# Altium integrated library Library.IntLib: 629 symbols (part 5 of 21)
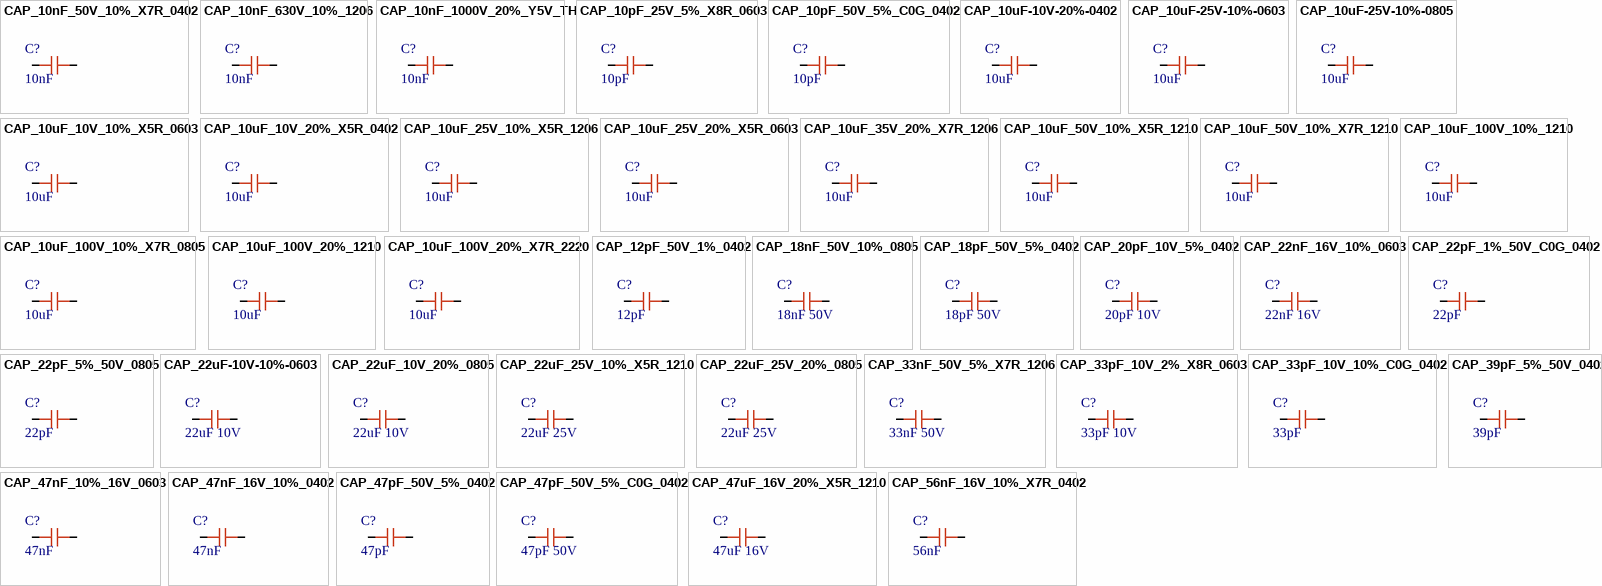
[diagram p22: symbols CAP_10nF_50V_10%_X7R_0402 to CAP_56nF_16V_10%_X7R_0402]

## CAP_22pF_5%_50V_0805
designator C?, comment 22pF
Ceramic Capacitor, Multilayer, Ceramic, 50V, 5% +Tol, 5% -Tol, C0G, 30ppm/Cel TC, 0.000022uF, Surface Mount, 0805; Manufacturer: KEMET; Manufacturer Part Number: C0805C220J5GACTU; Multilayer: Yes; Supplier: Rs; Supplier Part Number: 2644258; RoHS: Yes; Category: Ceramic Capacitors; Stock: 200; Pricing: 25=0.026, 100=0.037, 125=0.019, 250=0.034, 500=0.032, 625=0.013, 1000=0.03 (EUR); Mounting Technology: Surface Mount; Pins: 2; Dielectric Material: Ceramic; Package Shape: Rectangular; Case/Package: 0805; Terminal Finish: Nickel; Min Operating Temperature: -55°C; Max Operating Temperature: 125°C; JESD-609 Code: e3; Value: 22pF; Capacitor Type: Ceramic; Tolerance  (fill in as +-): 5%; Package Style: SMTMeter; Packaging: Tape and Reel; Tolerance (fill in as +-): 5%; Rated DC Voltage (URdc): 50V; Temperature Characteristics Code: C0G; Termination: Wraparound; Length: 2mm; Width: 1.25mm; Height: 0.7mm; Reach SVHC Compliant: Yes; RoHS Compliant: Yes; ComponentLink1URL: https://datasheet.ciiva.com:443/pdfs/VipMasterIC/IC/KEME/KEME-S-A0005605168/KEME-S-A0005605168-1.pdf?src-supplier=IHS+Markit; ComponentLink1Description: https://datasheet.ciiva.com:443/pdfs/VipMasterIC/IC/KEME/KEME-S-A0005605168/KEME-S-A0005605168-1.pdf?src-supplier=IHS+Markit; ComponentLink2URL: https://datasheet.ciiva.com/7842/1732694-7842250.pdf?src-supplier=Element14; ComponentLink2Description: https://datasheet.ciiva.com/7842/1732694-7842250.pdf?src-supplier=Element14; ComponentLink3URL: https://datasheet.ciiva.com/7842/1372242-7842570.pdf?src-supplier=Element14; ComponentLink3Description: https://datasheet.ciiva.com/7842/1372242-7842570.pdf?src-supplier=Element14; ComponentLink4URL: https://datasheet.ciiva.com/7842/1732694-7842251.pdf?src-supplier=Element14; ComponentLink4Description: https://datasheet.ciiva.com/7842/1732694-7842251.pdf?src-supplier=Element14; ComponentLink5URL: https://datasheet.ciiva.com/28668/1789732-28668761.pdf?src-supplier=Element14; ComponentLink5Description: https://datasheet.ciiva.com/28668/1789732-28668761.pdf?src-supplier=Element14
footprint CAP_0805
pins: 1, 2

## CAP_22uF-10V-10%-0603
designator C?, comment 22uF 10V
Ceramic Capacitor, Multilayer, Ceramic, 10V, 20% +Tol, 20% -Tol, X5R, 15% TC, 22uF, Surface Mount, 0603; Manufacturer: Samsung; Manufacturer Part Number: CL10A226MP8NUNE; Multilayer: Yes; Supplier: Avnet; Supplier Part Number: CL10A226MP8NUNE; RoHS: Yes; Category: Ceramic Capacitors; Stock: 1866000; Pricing: 3000=0.01407 (USD); Mounting Technology: Surface Mount; Pins: 2; Dielectric Material: Ceramic; Package Shape: Rectangular; Case/Package: 0603; Terminal Finish: Nickel; Min Operating Temperature: -55°C; Max Operating Temperature: 85°C; JESD-609 Code: e3; Value: 22uF; Capacitor Type: Ceramic; Tolerance  (fill in as +-): 20%; Package Style: SMTMeter; Packaging: Tape and Reel; Tolerance (fill in as +-): 20%; Rated DC Voltage (URdc): 10V; Temperature Characteristics Code: X5R; Termination: Wraparound; Length: 1.6mm; Width: 0.8mm; Height: 1.05mm; Reach SVHC Compliant: Yes; RoHS Compliant: Yes; ComponentLink1URL: https://datasheet.ciiva.com:443/pdfs/VipMasterIC/IC/SEMS/SEMS-S-A0008525088/SEMS-S-A0008525102-1.pdf?src-supplier=IHS+Markit; ComponentLink1Description: https://datasheet.ciiva.com:443/pdfs/VipMasterIC/IC/SEMS/SEMS-S-A0008525088/SEMS-S-A0008525102-1.pdf?src-supplier=IHS+Markit; ComponentLink2URL: https://datasheet.ciiva.com/26838/getdatasheetpartid-746477-26838370.pdf?src-supplier=Verical; ComponentLink2Description: https://datasheet.ciiva.com/26838/getdatasheetpartid-746477-26838370.pdf?src-supplier=Verical; ComponentLink3URL: https://datasheet.ciiva.com/25711/cl10a226mp8nune-25711532.pdf?src-supplier=Digikey; ComponentLink3Description: https://datasheet.ciiva.com/25711/cl10a226mp8nune-25711532.pdf?src-supplier=Digikey
footprint CAP_0603
pins: 1, 2

## CAP_22uF_10V_20%_0805
designator C?, comment 22uF 10V
Ceramic Capacitor, Multilayer, Ceramic, 10V, 20% +Tol, 20% -Tol, X5R, 15% TC, 22uF, Surface Mount, 0805; Manufacturer: Samsung; Manufacturer Part Number: CL21A226MPQNNNE; Multilayer: Yes; Supplier: Digikey; Supplier Part Number: 1276-2910-1-ND; RoHS: Yes; Category: Ceramic Capacitors; Stock: 364060; Pricing: 1=0.18, 10=0.121, 50=0.0726, 100=0.0571, 500=0.04214, 1000=0.03489 (USD); Mounting Technology: Surface Mount; Pins: 2; Case/Package: 0805; Dielectric Material: Ceramic; Package Shape: Rectangular; Terminal Finish: Nickel; Min Operating Temperature: -55°C; Max Operating Temperature: 85°C; Package Style: SMTMeter; Packaging: Tape and Reel; JESD-609 Code: e3; Value: 22uF; Capacitor Type: Ceramic; Tolerance  (fill in as +-): 20%; Tolerance (fill in as +-): 20%; Rated DC Voltage (URdc): 10V; Temperature Characteristics Code: X5R; Termination: Wraparound; Length: 2mm; Width: 1.25mm; Height: 1.4mm; Reach SVHC Compliant: Yes; RoHS Compliant: Yes; ComponentLink1URL: https://datasheet.ciiva.com:443/pdfs/VipMasterIC/IC/SEMS/SEMS-S-A0008528919/SEMS-S-A0008526560-1.pdf?src-supplier=IHS+Markit; ComponentLink1Description: https://datasheet.ciiva.com:443/pdfs/VipMasterIC/IC/SEMS/SEMS-S-A0008528919/SEMS-S-A0008526560-1.pdf?src-supplier=IHS+Markit; ComponentLink2URL: https://datasheet.ciiva.com/25721/cl21a226mpqnnne-25721488.pdf?src-supplier=Digikey; ComponentLink2Description: https://datasheet.ciiva.com/25721/cl21a226mpqnnne-25721488.pdf?src-supplier=Digikey
footprint CAP_0805
pins: 1, 2

## CAP_22uF_25V_10%_X5R_1210
designator C?, comment 22uF 25V
Ceramic Capacitor, Multilayer, Ceramic, 25V, 10% +Tol, 10% -Tol, X5R, 15% TC, 22uF, Surface Mount, 1210; Manufacturer: KEMET; Manufacturer Part Number: C1210C226K3PACTU; Multilayer: Yes; Supplier: Mouser; Supplier Part Number: 80-C1210C226K3P; RoHS: Yes; Category: Ceramic Capacitors; Stock: 240589; Pricing: 1=0.56, 10=0.38, 50=0.38, 100=0.3, 1000=0.244, 10000=0.206 (USD); Mounting Technology: Surface Mount; Pins: 2; Dielectric Material: Ceramic; Package Shape: Rectangular; Case/Package: 1210; Terminal Finish: Nickel; Min Operating Temperature: -55°C; Max Operating Temperature: 85°C; JESD-609 Code: e3; Value: 22uF; Capacitor Type: Ceramic; Tolerance  (fill in as +-): 10%; Package Style: SMTMeter; Packaging: Tape and Reel; Tolerance (fill in as +-): 10%; Rated DC Voltage (URdc): 25V; Temperature Characteristics Code: X5R; Termination: Wraparound; Length: 3.2mm; Width: 2.5mm; Height: 2.5mm; Reach SVHC Compliant: Yes; RoHS Compliant: Yes; ComponentLink1URL: https://datasheet.ciiva.com:443/pdfs/VipMasterIC/IC/KEME/KEME-S-A0008991665/KEME-S-A0008991665-1.pdf?src-supplier=IHS+Markit; ComponentLink1Description: https://datasheet.ciiva.com:443/pdfs/VipMasterIC/IC/KEME/KEME-S-A0008991665/KEME-S-A0008991665-1.pdf?src-supplier=IHS+Markit; ComponentLink2URL: https://datasheet.ciiva.com/29540/kem-c1006-x5r-smd-29540222.pdf?src-supplier=Digikey; ComponentLink2Description: https://datasheet.ciiva.com/29540/kem-c1006-x5r-smd-29540222.pdf?src-supplier=Digikey; ComponentLink3URL: https://datasheet.ciiva.com/29540/kem-c1006-x5r-smd-29540221.pdf?src-supplier=Digikey; ComponentLink3Description: https://datasheet.ciiva.com/29540/kem-c1006-x5r-smd-29540221.pdf?src-supplier=Digikey; ComponentLink4URL: https://datasheet.ciiva.com/29540/kem-c1006-x5r-smd-29540223.pdf?src-supplier=Digikey; ComponentLink4Description: https://datasheet.ciiva.com/29540/kem-c1006-x5r-smd-29540223.pdf?src-supplier=Digikey
footprint CAP_1210
pins: 1, 2

## CAP_22uF_25V_20%_0805
designator C?, comment 22uF 25V
Ceramic Capacitor, Multilayer, Ceramic, 25V, 20% +Tol, 20% -Tol, X5R, 15% TC, 22uF, Surface Mount, 0805; Manufacturer: Samsung; Manufacturer Part Number: CL21A226MAYNNNE; Multilayer: Yes; Supplier: Digikey; Supplier Part Number: 1276-CL21A226MAYNNNECT-ND; RoHS: Yes; Category: Ceramic Capacitors; Stock: 761092; Pricing: 1=0.2, 10=0.091, 50=0.0732, 100=0.0552, 500=0.0516, 1000=0.048 (USD); Mounting Technology: Surface Mount; Pins: 2; Dielectric Material: Ceramic; Package Shape: Rectangular; Case/Package: 0805; Min Operating Temperature: -55°C; Max Operating Temperature: 85°C; Value: 22uF; Capacitor Type: Ceramic; Tolerance  (fill in as +-): 20%; Packaging: Tape and Reel; Tolerance (fill in as +-): 20%; Rated DC Voltage (URdc): 25V; Temperature Characteristics Code: X5R; Termination: Wraparound; Reach SVHC Compliant: Yes; RoHS Compliant: Yes; ComponentLink1URL: https://datasheet.ciiva.com:443/pdfs/VipMasterIC/IC/SEMS/SEMS-S-A0008528919/SEMS-S-A0008528829-1.pdf?src-supplier=IHS+Markit; ComponentLink1Description: https://datasheet.ciiva.com:443/pdfs/VipMasterIC/IC/SEMS/SEMS-S-A0008528919/SEMS-S-A0008528829-1.pdf?src-supplier=IHS+Markit; ComponentLink2URL: https://datasheet.octopart.com/CL21A226MAYNNNE-Samsung-Electro-Mechanics-datasheet-149154243.pdf?src-supplier=Future+Electronics; ComponentLink2Description: https://datasheet.octopart.com/CL21A226MAYNNNE-Samsung-Electro-Mechanics-datasheet-149154243.pdf?src-supplier=Future+Electronics; ComponentLink3URL: https://datasheet.octopart.com/CL21A226MAYNNNE-Samsung-datasheet-8326407.pdf?src-supplier=TME; ComponentLink3Description: https://datasheet.octopart.com/CL21A226MAYNNNE-Samsung-datasheet-8326407.pdf?src-supplier=TME
footprint CAP_0805
pins: 1, 2

## CAP_33nF_50V_5%_X7R_1206
designator C?, comment 33nF 50V
Ceramic Capacitor, Multilayer, Ceramic, 50V, 5% +Tol, 5% -Tol, X7R, 15% TC, 0.033uF, Surface Mount, 1206; Manufacturer: KEMET; Manufacturer Part Number: C1206C333J5RACTU; Multilayer: Yes; Supplier: Mouser; Supplier Part Number: 80-C1206C333J5R; RoHS: Yes; Category: Ceramic Capacitors; Stock: 9603; Pricing: 1=0.17, 10=0.075, 50=0.075, 100=0.044, 1000=0.035, 10000=0.027 (USD); Mounting Technology: Surface Mount; Pins: 2; Dielectric Material: Ceramic; Package Shape: Rectangular; Case/Package: 1206; Terminal Finish: Nickel; Min Operating Temperature: -55°C; Max Operating Temperature: 125°C; JESD-609 Code: e3; Value: 33nF; Capacitor Type: Ceramic; Tolerance  (fill in as +-): 5%; Package Style: SMTMeter; Packaging: Tape and Reel; Tolerance (fill in as +-): 5%; Rated DC Voltage (URdc): 50V; Temperature Characteristics Code: X7R; Termination: Wraparound; Length: 3.2mm; Width: 1.6mm; Height: 0.78mm; Reach SVHC Compliant: Yes; RoHS Compliant: Yes; ComponentLink1URL: https://datasheet.ciiva.com:443/pdfs/VipMasterIC/IC/KEME/KEME-S-A0008991654/KEME-S-A0008991654-1.pdf?src-supplier=IHS+Markit; ComponentLink1Description: https://datasheet.ciiva.com:443/pdfs/VipMasterIC/IC/KEME/KEME-S-A0008991654/KEME-S-A0008991654-1.pdf?src-supplier=IHS+Markit; ComponentLink2URL: https://datasheet.ciiva.com/5419/kem-c1002-x7r-smd-5419173.pdf?src-supplier=Mouser; ComponentLink2Description: https://datasheet.ciiva.com/5419/kem-c1002-x7r-smd-5419173.pdf?src-supplier=Mouser
footprint CAP_1206
pins: 1, 2

## CAP_33pF_10V_2%_X8R_0603
designator C?, comment 33pF 10V
33 pF ±2% 10V Ceramic Capacitor X8R 0603 (1608 Metric); Manufacturer: KEMET; Manufacturer Part Number: C0603C330G8HAC7867; Supplier: Digi-Key; Supplier Part Number: 399-C0603C330G8HAC7867DKR-ND; RoHS: No; Category: Ceramic Capacitors; Stock: 13798; Pricing: 1=0.1, 10=0.069, 50=0.0394, 100=0.0305, 500=0.02298, 1000=0.01805 (USD)
footprint CAP_0603
pins: 1, 2

## CAP_33pF_10V_10%_C0G_0402
designator C?, comment 33pF
Ceramic Capacitor, Multilayer, Ceramic, 10V, 10% +Tol, 10% -Tol, C0G, -/+30ppm/Cel TC, 0.000033uF, 0402; Manufacturer: KEMET; Manufacturer Part Number: C0402C330K8GAC7867; Multilayer: Yes; Supplier: Digikey; Supplier Part Number: 399-14445-1-ND; RoHS: Yes; Category: Ceramic Capacitors; Stock: 6655; Pricing: 1=0.31, 10=0.204, 50=0.1502, 100=0.1223, 500=0.09658, 1000=0.08156, 2500=0.07726, 5000=0.07297 (USD); Pins: 2; Dielectric Material: Ceramic; Case/Package: 0402; Terminal Finish: Nickel; Min Operating Temperature: -55°C; Max Operating Temperature: 125°C; JESD-609 Code: e3; Value: 33pF; Capacitor Type: Ceramic; Tolerance  (fill in as +-): 10%; Package Style: SMTMeter; Packaging: Tape and Reel; Tolerance (fill in as +-): 10%; Rated DC Voltage (URdc): 10V; Temperature Characteristics Code: C0G; Series: C(SIZE)C(C0G); Length: 1mm; Width: 0.5mm; Height: 0.5mm; Reach SVHC Compliant: Yes; RoHS Compliant: Yes; ComponentLink1URL: https://datasheet.ciiva.com:443/pdfs/VipMasterIC/IC/KEME/KEMES02331/KEMES02331-1.pdf?src-supplier=IHS+Markit; ComponentLink1Description: https://datasheet.ciiva.com:443/pdfs/VipMasterIC/IC/KEME/KEMES02331/KEMES02331-1.pdf?src-supplier=IHS+Markit; ComponentLink2URL: https://api.kemet.com/component-edge/download/datasheet/C0402C330K8GACTU.pdf?src-supplier=Digikey; ComponentLink2Description: https://api.kemet.com/component-edge/download/datasheet/C0402C330K8GACTU.pdf?src-supplier=Digikey; ComponentLink3URL: http://capacitoredge.kemet.com/capedge2/DataSheet?pn=C0402C330K8GAC7867&src-supplier=Avnet; ComponentLink3Description: http://capacitoredge.kemet.com/capedge2/DataSheet?pn=C0402C330K8GAC7867&src-supplier=Avnet; ComponentLink4URL: http://capacitoredge.kemet.com/capedge2/DataSheet?pn=C0402C330K8GAC7867; ComponentLink4Description: http://capacitoredge.kemet.com/capedge2/DataSheet?pn=C0402C330K8GAC7867
footprint CAP_0402
pins: 1, 2

## CAP_39pF_5%_50V_0402
designator C?, comment 39pF
Ceramic Capacitor, Multilayer, Ceramic, 50V, 5% +Tol, 5% -Tol, C0G, 30ppm/Cel TC, 0.000039uF, Surface Mount, 0402; Manufacturer: Murata; Manufacturer Part Number: GJM1555C1H390JB01D; Multilayer: Yes; Supplier: Mouser; Supplier Part Number: 81-GJM1555C1H390JB1D; RoHS: Yes; Category: Ceramic Capacitors; Stock: 9880; Pricing: 1=0.14, 10=0.053, 50=0.053, 100=0.034, 1000=0.029, 10000=0.018 (USD); Mounting Technology: Surface Mount; Pins: 2; Dielectric Material: Ceramic; Package Shape: Rectangular; Case/Package: 0402; Terminal Finish: Nickel; Min Operating Temperature: -55°C; Max Operating Temperature: 125°C; JESD-609 Code: e3; Value: 39pF; Capacitor Type: Ceramic; Tolerance  (fill in as +-): 5%; Package Style: SMTMeter; Packaging: Tape and Reel; Tolerance (fill in as +-): 5%; Rated DC Voltage (URdc): 50V; Temperature Characteristics Code: C0G; Termination: Wraparound; Length: 1mm; Width: 0.5mm; Height: 0.5mm; Reach SVHC Compliant: Yes; RoHS Compliant: Yes; ComponentLink1URL: https://psearch.en.murata.com:443/capacitor/product/GJM1555C1H390JB01%23.pdf?src-supplier=IHS+Markit; ComponentLink1Description: https://psearch.en.murata.com:443/capacitor/product/GJM1555C1H390JB01%23.pdf?src-supplier=IHS+Markit; ComponentLink2URL: http://www.farnell.com/datasheets/2731209.pdf?src-supplier=Farnell; ComponentLink2Description: http://www.farnell.com/datasheets/2731209.pdf?src-supplier=Farnell; ComponentLink3URL: http://search.murata.co.jp/Ceramy/image/img/A01X/G101/ENG/GJM1555C1H390JB01-01.pdf?src-supplier=Digikey; ComponentLink3Description: http://search.murata.co.jp/Ceramy/image/img/A01X/G101/ENG/GJM1555C1H390JB01-01.pdf?src-supplier=Digikey; ComponentLink4URL: https://search.murata.co.jp/Ceramy/image/img/A01X/G101/ENG/GJM1555C1H390JB01-01.pdf?src-supplier=Digikey; ComponentLink4Description: https://search.murata.co.jp/Ceramy/image/img/A01X/G101/ENG/GJM1555C1H390JB01-01.pdf?src-supplier=Digikey; ComponentLink5URL: https://datasheet.octopart.com/GJM1555C1H390JB01D-Murata-datasheet-12511495.pdf?src-supplier=TME; ComponentLink5Description: https://datasheet.octopart.com/GJM1555C1H390JB01D-Murata-datasheet-12511495.pdf?src-supplier=TME
footprint CAP_0402
pins: 1, 2

## CAP_47nF_10%_16V_0603
designator C?, comment 47nF
Ceramic Capacitor, Multilayer, Ceramic, 16V, 10% +Tol, 10% -Tol, X7R, 15% TC, 0.047uF, Surface Mount, 0603; Manufacturer: KEMET; Manufacturer Part Number: C0603C473K4RECAUTO; Supplier: Farnell; Supplier Part Number: 4551851; RoHS: Yes; Category: Ceramic Capacitors; Stock: 910; Pricing: 10=0.0758, 100=0.0633, 500=0.0428, 1000=0.0379, 2000=0.0341, 4000=0.0302 (EUR); Pins: 2; Dielectric Material: Ceramic; Capacitor Type: Ceramic; Reach SVHC Compliant: Yes; RoHS Compliant: Yes; ComponentLink1URL: https://datasheet.ciiva.com:443/pdfs/VipMasterIC/IC/KEME/KEME-S-A0008958450/KEME-S-A0008958450-1.pdf?src-supplier=IHS+Markit; ComponentLink1Description: https://datasheet.ciiva.com:443/pdfs/VipMasterIC/IC/KEME/KEME-S-A0008958450/KEME-S-A0008958450-1.pdf?src-supplier=IHS+Markit; ComponentLink2URL: https://api.kemet.com/component-edge/download/datasheet/C0603C473K4RECAUTO.pdf?src-supplier=Digikey; ComponentLink2Description: https://api.kemet.com/component-edge/download/datasheet/C0603C473K4RECAUTO.pdf?src-supplier=Digikey; ComponentLink3URL: https://datasheet.octopart.com/C0603C473K4RECAUTO-KEMET-datasheet-149535171.pdf?src-supplier=Farnell; ComponentLink3Description: https://datasheet.octopart.com/C0603C473K4RECAUTO-KEMET-datasheet-149535171.pdf?src-supplier=Farnell; ComponentLink4URL: https://datasheet.octopart.com/C0603C473K4RECAUTO-KEMET-datasheet-153706760.pdf?src-supplier=Newark; ComponentLink4Description: https://datasheet.octopart.com/C0603C473K4RECAUTO-KEMET-datasheet-153706760.pdf?src-supplier=Newark
footprint CAP_0603
pins: 1, 2

## CAP_47nF_16V_10%_0402
designator C?, comment 47nF
Ceramic Capacitor, Multilayer, Ceramic, 16V, 10% +Tol, 10% -Tol, X7R, 15% TC, 0.047uF, Surface Mount, 0402; Manufacturer: Murata; Manufacturer Part Number: GRM155R71C473KA01D; Multilayer: Yes; Supplier: Mouser; Supplier Part Number: 81-GRM155R71C473KA01; RoHS: Yes; Category: Ceramic Capacitors; Stock: 42605; Pricing: 1=0.1, 10=0.021, 50=0.021, 100=0.013, 1000=0.008, 10000=0.004 (USD); Mounting Technology: Surface Mount; Pins: 2; Dielectric Material: Ceramic; Package Shape: Rectangular; Case/Package: 0402; Terminal Finish: Nickel; Min Operating Temperature: -55°C; Max Operating Temperature: 125°C; JESD-609 Code: e3; Value: 47nF; Capacitor Type: Ceramic; Tolerance  (fill in as +-): 10%; Package Style: SMTMeter; Packaging: Tape and Reel; Tolerance (fill in as +-): 10%; Rated DC Voltage (URdc): 16V; Temperature Characteristics Code: X7R; Termination: Wraparound; Length: 1mm; Width: 0.5mm; Height: 0.5mm; Reach SVHC Compliant: Yes; RoHS Compliant: Yes; ComponentLink1URL: https://datasheet.ciiva.com:443/pdfs/VipMasterIC/IC/MURE/MURE-S-A0004362469/MURE-S-A0004364662-1.pdf?src-supplier=IHS+Markit; ComponentLink1Description: https://datasheet.ciiva.com:443/pdfs/VipMasterIC/IC/MURE/MURE-S-A0004362469/MURE-S-A0004364662-1.pdf?src-supplier=IHS+Markit; ComponentLink2URL: https://datasheet.ciiva.com/29700/1856370-29700667.pdf?src-supplier=Jameco; ComponentLink2Description: https://datasheet.ciiva.com/29700/1856370-29700667.pdf?src-supplier=Jameco; ComponentLink3URL: https://datasheet.ciiva.com/18101/getdatasheetpartid-37898-18101065.pdf?src-supplier=Verical; ComponentLink3Description: https://datasheet.ciiva.com/18101/getdatasheetpartid-37898-18101065.pdf?src-supplier=Verical; ComponentLink4URL: https://datasheet.ciiva.com/6270/product-6270789.pdf?src-supplier=Digikey; ComponentLink4Description: https://datasheet.ciiva.com/6270/product-6270789.pdf?src-supplier=Digikey; ComponentLink5URL: https://datasheet.ciiva.com/6270/partnumbering-e-01-6270890.pdf?src-supplier=Digikey; ComponentLink5Description: https://datasheet.ciiva.com/6270/partnumbering-e-01-6270890.pdf?src-supplier=Digikey; ComponentLink6URL: https://datasheet.ciiva.com/6270/partnumbering-e-01-6270887.pdf?src-supplier=Digikey; ComponentLink6Description: https://datasheet.ciiva.com/6270/partnumbering-e-01-6270887.pdf?src-supplier=Digikey; ComponentLink7URL: https://datasheet.ciiva.com/2989/product-2989386.pdf?src-supplier=Avnet; ComponentLink7Description: https://datasheet.ciiva.com/2989/product-2989386.pdf?src-supplier=Avnet
footprint CAP_0402
pins: 1, 2

## CAP_47pF_50V_5%_0402
designator C?, comment 47pF
Ceramic Capacitor, Multilayer, Ceramic, 50V, 5% +Tol, 5% -Tol, C0G, 30ppm/Cel TC, 0.000047uF, Surface Mount, 0402; Manufacturer: Murata; Manufacturer Part Number: GJM1555C1H470JB01D; Multilayer: Yes; Supplier: Mouser; Supplier Part Number: 81-GJM1555C1H470JB1D; RoHS: Yes; Category: Ceramic Capacitors; Stock: 18026; Pricing: 1=0.14, 10=0.053, 50=0.053, 100=0.034, 1000=0.029, 10000=0.019 (USD); Mounting Technology: Surface Mount; Pins: 2; Dielectric Material: Ceramic; Package Shape: Rectangular; Case/Package: 0402; Terminal Finish: Nickel; Min Operating Temperature: -55°C; Max Operating Temperature: 125°C; JESD-609 Code: e3; Value: 47pF; Capacitor Type: Ceramic; Tolerance  (fill in as +-): 5%; Package Style: SMTMeter; Packaging: Tape and Reel; Tolerance (fill in as +-): 5%; Rated DC Voltage (URdc): 50V; Temperature Characteristics Code: C0G; Termination: Wraparound; Length: 1mm; Width: 0.5mm; Height: 0.5mm; Reach SVHC Compliant: Yes; RoHS Compliant: Yes; ComponentLink1URL: https://datasheet.ciiva.com:443/pdfs/VipMasterIC/IC/MURE/MURE-S-A0004383799/MURE-S-A0004383800-1.pdf?src-supplier=IHS+Markit; ComponentLink1Description: https://datasheet.ciiva.com:443/pdfs/VipMasterIC/IC/MURE/MURE-S-A0004383799/MURE-S-A0004383800-1.pdf?src-supplier=IHS+Markit; ComponentLink2URL: http://search.murata.co.jp/Ceramy/image/img/A01X/G101/ENG/GJM1555C1H470JB01-01.pdf?src-supplier=Digikey; ComponentLink2Description: http://search.murata.co.jp/Ceramy/image/img/A01X/G101/ENG/GJM1555C1H470JB01-01.pdf?src-supplier=Digikey; ComponentLink3URL: https://datasheet.octopart.com/GJM1555C1H470JB01D-Murata-datasheet-12511495.pdf?src-supplier=TME; ComponentLink3Description: https://datasheet.octopart.com/GJM1555C1H470JB01D-Murata-datasheet-12511495.pdf?src-supplier=TME
footprint CAP_0402
pins: 1, 2

## CAP_47pF_50V_5%_C0G_0402
designator C?, comment 47pF 50V
Ceramic Capacitor, Multilayer, Ceramic, 50V, 5% +Tol, 5% -Tol, C0G, 30ppm/Cel TC, 0.000047uF, Surface Mount, 0402; Manufacturer: KEMET; Manufacturer Part Number: C0402C470J5GACAUTO; Multilayer: Yes; Reference Standard: AEC-Q200; Supplier: Mouser; Supplier Part Number: 80-C0402C470J5GAUTO; RoHS: Yes; Category: Ceramic Capacitors; Stock: 62961; Pricing: 1=0.1, 10=0.037, 50=0.037, 100=0.019, 1000=0.012, 10000=0.009 (USD); Mounting Technology: Surface Mount; Pins: 2; Package Shape: Rectangular; Terminal Finish: Nickel; Dielectric Material: Ceramic; Case/Package: 0402; Min Operating Temperature: -55°C; Max Operating Temperature: 125°C; JESD-609 Code: e3; Package Style: SMTMeter; Value: 47pF; Capacitor Type: Ceramic; Tolerance  (fill in as +-): 5%; Packaging: Tape and Reel; Tolerance (fill in as +-): 5%; Rated DC Voltage (URdc): 50V; Temperature Characteristics Code: C0G; Termination: Wraparound; Length: 1mm; Width: 0.5mm; Height: 0.5mm; RoHS Compliant: Yes; Reach SVHC Compliant: Yes; ComponentLink1URL: https://datasheet.ciiva.com:443/pdfs/VipMasterIC/IC/KEME/KEME-S-A0008958445/KEME-S-A0008958445-1.pdf?src-supplier=IHS+Markit; ComponentLink1Description: https://datasheet.ciiva.com:443/pdfs/VipMasterIC/IC/KEME/KEME-S-A0008958445/KEME-S-A0008958445-1.pdf?src-supplier=IHS+Markit; ComponentLink2URL: https://datasheet.ciiva.com/6256/datasheetpn-c0402c470j5gacauto-6256978.pdf?src-supplier=Digikey; ComponentLink2Description: https://datasheet.ciiva.com/6256/datasheetpn-c0402c470j5gacauto-6256978.pdf?src-supplier=Digikey
footprint CAP_0402
pins: 1, 2

## CAP_47uF_16V_20%_X5R_1210
designator C?, comment 47uF 16V
Ceramic Capacitor, Multilayer, Ceramic, 16V, 20% +Tol, 20% -Tol, X5R, 15% TC, 47uF, Surface Mount, 1210; Manufacturer: KEMET; Manufacturer Part Number: C1210C476M4PACTU; Multilayer: Yes; Supplier: Digi-Key; Supplier Part Number: 399-C1210C476M4PAC7800CT-ND; RoHS: Yes; Category: Ceramic Capacitors; Stock: 57016; Pricing: 1=1.07, 10=0.772, 50=0.675, 100=0.5499, 500=0.44996 (USD); Mounting Technology: Surface Mount; Pins: 2; Dielectric Material: Ceramic; Package Shape: Rectangular; Case/Package: 1210; Terminal Finish: Nickel; Min Operating Temperature: -55°C; Max Operating Temperature: 85°C; JESD-609 Code: e3; Value: 47uF; Capacitor Type: Ceramic; Tolerance  (fill in as +-): 20%; Package Style: SMTMeter; Packaging: Tape and Reel; Tolerance (fill in as +-): 20%; Rated DC Voltage (URdc): 16V; Temperature Characteristics Code: X5R; Termination: Wraparound; Length: 3.2mm; Width: 2.5mm; Height: 2.5mm; Reach SVHC Compliant: Yes; RoHS Compliant: Yes; ComponentLink1URL: https://datasheet.ciiva.com:443/pdfs/VipMasterIC/IC/KEME/KEME-S-A0008991665/KEME-S-A0008991665-1.pdf?src-supplier=IHS+Markit; ComponentLink1Description: https://datasheet.ciiva.com:443/pdfs/VipMasterIC/IC/KEME/KEME-S-A0008991665/KEME-S-A0008991665-1.pdf?src-supplier=IHS+Markit; ComponentLink2URL: https://datasheet.ciiva.com/22705/652158-22705488.pdf?src-supplier=Element14; ComponentLink2Description: https://datasheet.ciiva.com/22705/652158-22705488.pdf?src-supplier=Element14; ComponentLink3URL: https://datasheet.ciiva.com/28608/1918694-28608774.pdf?src-supplier=Element14; ComponentLink3Description: https://datasheet.ciiva.com/28608/1918694-28608774.pdf?src-supplier=Element14
footprint CAP_1210
pins: 1, 2

## CAP_56nF_16V_10%_X7R_0402
designator C?, comment 56nF
Ceramic Capacitor, Multilayer, Ceramic, 16V, 10% +Tol, 10% -Tol, X7R, 15% TC, 0.056uF, Surface Mount, 0402; Manufacturer: Murata; Manufacturer Part Number: GRM155R71C563KA88D; Multilayer: Yes; Supplier: Arrow Electronics; Supplier Part Number: GRM155R71C563KA88D; RoHS: Yes; Category: Ceramic Capacitors; Stock: 180000; Pricing: 10000=0.0094, 20000=0.0084, 30000=0.0083, 50000=0.0083, 70000=0.0082, 100000=0.008, 250000=0.0078, 500000=0.0077, 1000000=0.0076 (USD); Mounting Technology: Surface Mount; Pins: 2; Dielectric Material: Ceramic; Package Shape: Rectangular; Case/Package: 0402; Terminal Finish: Nickel; Min Operating Temperature: -55°C; Max Operating Temperature: 125°C; JESD-609 Code: e3; Value: 56nF; Capacitor Type: Ceramic; Tolerance  (fill in as +-): 10%; Package Style: SMTMeter; Packaging: Tape and Reel; Tolerance (fill in as +-): 10%; Rated DC Voltage (URdc): 16V; Temperature Characteristics Code: X7R; Termination: Wraparound; Length: 1mm; Width: 0.5mm; Height: 0.5mm; Reach SVHC Compliant: Yes; RoHS Compliant: Yes; ComponentLink1URL: https://datasheet.ciiva.com:443/pdfs/VipMasterIC/IC/MURE/MURE-S-A0004362469/MURE-S-A0004364426-1.pdf?src-supplier=IHS+Markit; ComponentLink1Description: https://datasheet.ciiva.com:443/pdfs/VipMasterIC/IC/MURE/MURE-S-A0004362469/MURE-S-A0004364426-1.pdf?src-supplier=IHS+Markit; ComponentLink2URL: https://datasheet.ciiva.com/3780/9037grm155r71c563ka8823-3780020.pdf?src-supplier=Arrow+Electronics; ComponentLink2Description: https://datasheet.ciiva.com/3780/9037grm155r71c563ka8823-3780020.pdf?src-supplier=Arrow+Electronics; ComponentLink3URL: https://datasheet.ciiva.com/18184/getdatasheetpartid-300518-18184677.pdf?src-supplier=Verical; ComponentLink3Description: https://datasheet.ciiva.com/18184/getdatasheetpartid-300518-18184677.pdf?src-supplier=Verical; ComponentLink4URL: https://datasheet.ciiva.com/5413/product-5413719.pdf?src-supplier=Mouser; ComponentLink4Description: https://datasheet.ciiva.com/5413/product-5413719.pdf?src-supplier=Mouser; ComponentLink5URL: https://datasheet.ciiva.com/6270/partnumbering-e-01-6270812.pdf?src-supplier=Digikey; ComponentLink5Description: https://datasheet.ciiva.com/6270/partnumbering-e-01-6270812.pdf?src-supplier=Digikey; ComponentLink6URL: https://datasheet.ciiva.com/6270/partnumbering-e-01-6270814.pdf?src-supplier=Digikey; ComponentLink6Description: https://datasheet.ciiva.com/6270/partnumbering-e-01-6270814.pdf?src-supplier=Digikey
footprint CAP_0402
pins: 1, 2

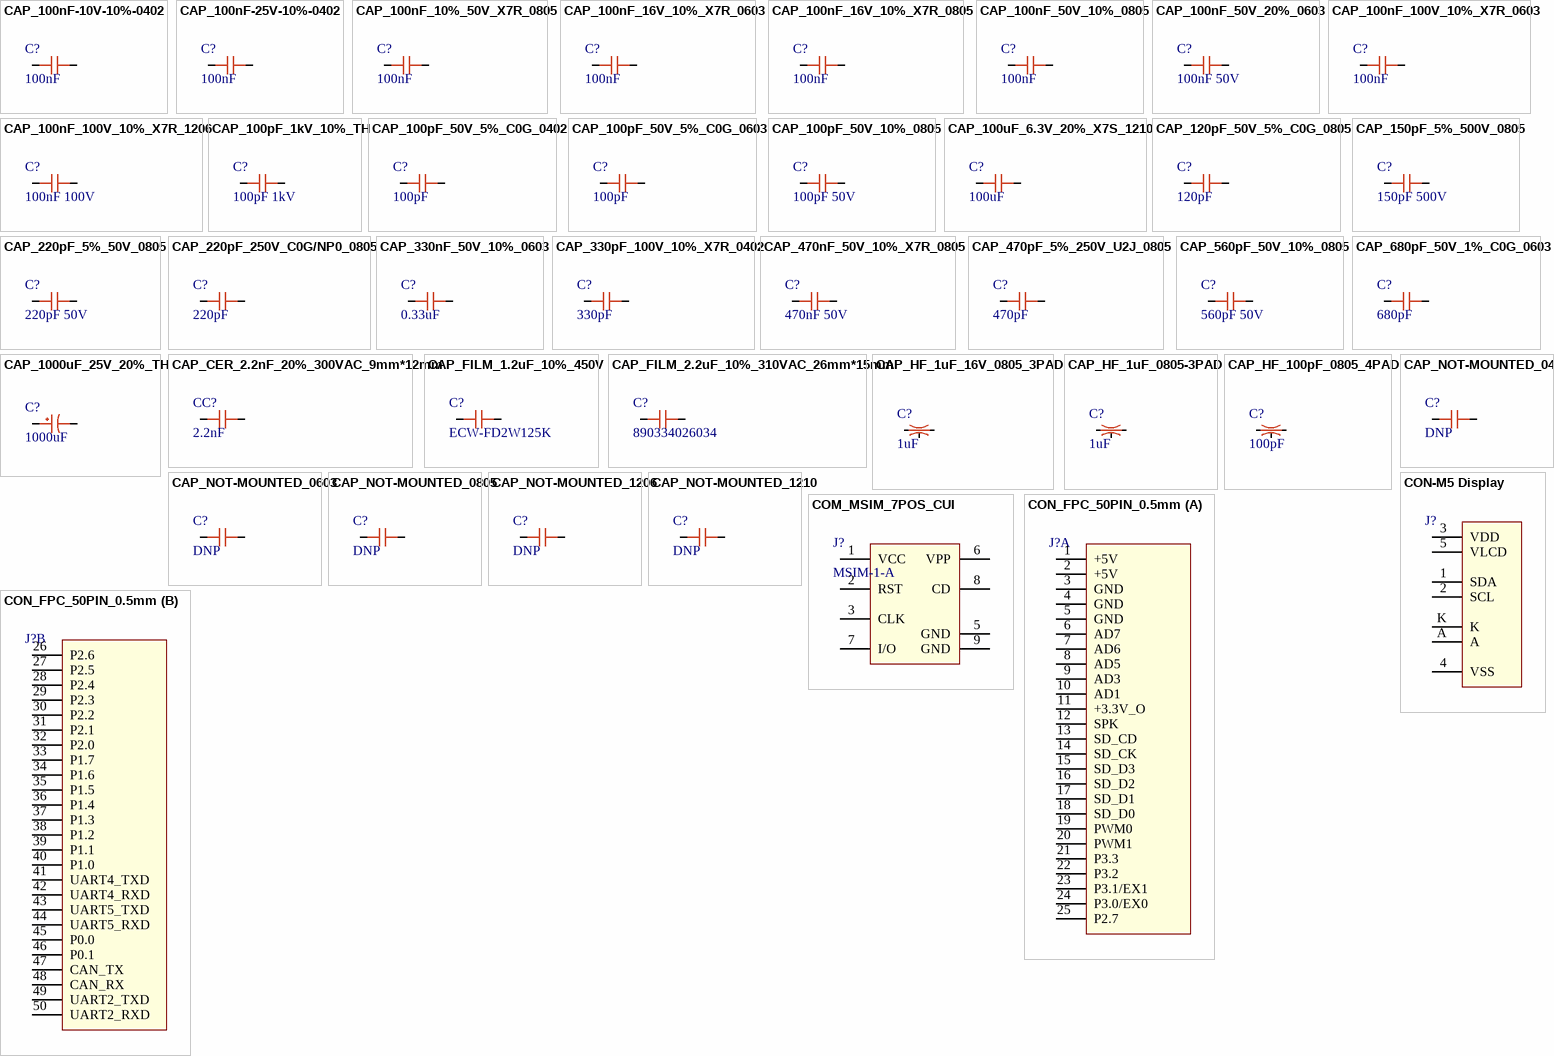
[diagram p3: symbols CAP_100nF-10V-10%-0402 to CON_FPC_50PIN_0.5mm]

## CAP_100nF-10V-10%-0402
designator C?, comment 100nF
Multilayer Ceramic Capacitor, 0.1 uF, 25 V, ± 10%, X7R, 0402 [1005 Metric]; Manufacturer: Yageo; Manufacturer Part Number: CC0402KRX7R6BB104; Voltage Rating: 10V; Case/Package: 0402; Supplier-1: Digikey; Supplier 1: Digi-Key; Manufacturer 1: Yageo; Manufacturer Part Number 1: CC0402KRX7R6BB104; RoHS: Yes; Category: Ceramic Capacitors; Stock 1: 564425; Pricing 1: 1=0.1, 10=0.024, 50=0.013, 100=0.0106, 500=0.0076, 1000=0.00597, 2500=0.00543, 5000=0.00499 (USD); Mount: Surface Mount; Number of Pins: 2; Case Code (Imperial): 0402; Case Code (Metric): 1005; Min Operating Temperature: -55°C; Max Operating Temperature: 125°C; Capacitance: 100nF; Tolerance: 10%; Packaging: Tape and Reel; Dielectric: X7R; Termination: SMD/SMT; Package Quantity: 1; Voltage Rating (DC): 10V; Voltage: 10V; Series: CC; Construction: Flat; Length: 1mm; Width: 0.02inch; Height: 0.5mm; Depth: 0.5mm; Thickness: 0.022inch; Radiation Hardening: No; RoHS Compliant: Yes; Lead Free: Lead Free; Halogen Free: Halogen Free; Reach SVHC Compliant: Unknown; ComponentLink1URL: https://datasheet.ciiva.com/144/mlccorderingcode-144363.pdf?src-supplier=Digi-Key; ComponentLink1Description: https://datasheet.ciiva.com/144/mlccorderingcode-144363.pdf?src-supplier=Digi-Key; ComponentLink2URL: https://datasheet.ciiva.com/144/mlccorderingcode-144365.pdf?src-supplier=Digi-Key; ComponentLink2Description: https://datasheet.ciiva.com/144/mlccorderingcode-144365.pdf?src-supplier=Digi-Key; ComponentLink3URL: https://datasheet.ciiva.com/11786/0900766b80d84f1d-11786159.pdf?src-supplier=Rs; ComponentLink3Description: https://datasheet.ciiva.com/11786/0900766b80d84f1d-11786159.pdf?src-supplier=Rs; ComponentLink4URL: https://datasheet.ciiva.com/144/mlccorderingcode-144364.pdf?src-supplier=Digi-Key; ComponentLink4Description: https://datasheet.ciiva.com/144/mlccorderingcode-144364.pdf?src-supplier=Digi-Key; ComponentLink5URL: https://datasheet.ciiva.com/26862/getdatasheetpartid-317655-26862631.pdf?src-supplier=Verical; ComponentLink5Description: https://datasheet.ciiva.com/26862/getdatasheetpartid-317655-26862631.pdf?src-supplier=Verical; ComponentLink6URL: https://datasheet.ciiva.com/5426/upy-gphc-x7r-6-3v-to-50v-8-5426469.pdf?src-supplier=Mouser; ComponentLink6Description: https://datasheet.ciiva.com/5426/upy-gphc-x7r-6-3v-to-50v-8-5426469.pdf?src-supplier=Mouser; ComponentLink7URL: https://datasheet.ciiva.com/28450/1489800-28450311.pdf?src-supplier=Element14; ComponentLink7Description: https://datasheet.ciiva.com/28450/1489800-28450311.pdf?src-supplier=Element14; Supplier Part Number 1: 311-1345-1-ND
footprint CAP_0402 (Capacitor)
pins: 1, 2

## CAP_100nF-25V-10%-0402
designator C?, comment 100nF
Multilayer Ceramic Capacitor, 0.1 F, 10%, X7R, 25 V, 0402 [1005 Metric] RoHS Compliant: Yes; Manufacturer: Walsin Technology Corporation; Manufacturer Part Number: 0402B104K250CT; Manufacturer 1: Walsin Technologies; Case/Package: 0402; Supplier-1: Digikey; Supplier 1: Digi-Key; Manufacturer Part Number 1: 0402B104K250CT; RoHS: Yes; Category: Ceramic Capacitors; Stock 1: 1195366; Pricing 1: 1=0.1, 10=0.053, 50=0.029, 100=0.0238, 500=0.01696, 1000=0.01333, 2500=0.01212, 5000=0.01115 (USD); ComponentLink1URL: http://www.farnell.com/datasheets/2340522.pdf?src-supplier=Farnell; ComponentLink1Description: http://www.farnell.com/datasheets/2340522.pdf?src-supplier=Farnell; ComponentLink2URL: http://www.farnell.com/datasheets/1958513.pdf?src-supplier=Farnell; ComponentLink2Description: http://www.farnell.com/datasheets/1958513.pdf?src-supplier=Farnell; ComponentLink3URL: https://datasheet.octopart.com/0402B104K250CT-Walsin-Technologies-datasheet-85392065.pdf?src-supplier=Element14; ComponentLink3Description: https://datasheet.octopart.com/0402B104K250CT-Walsin-Technologies-datasheet-85392065.pdf?src-supplier=Element14; ComponentLink4URL: http://www.passivecomponent.com/wp-content/uploads/2018/10/MLCC.pdf?src-supplier=Digi-Key; ComponentLink4Description: http://www.passivecomponent.com/wp-content/uploads/2018/10/MLCC.pdf?src-supplier=Digi-Key; ComponentLink5URL: http://www.passivecomponent.com/indexsea/0402B104K250CT-TN.pdf?src-supplier=Digi-Key; ComponentLink5Description: http://www.passivecomponent.com/indexsea/0402B104K250CT-TN.pdf?src-supplier=Digi-Key; ComponentLink6URL: https://datasheet.octopart.com/0402B104K250CT-Walsin-Technologies-datasheet-62066062.pdf?src-supplier=TME; ComponentLink6Description: https://datasheet.octopart.com/0402B104K250CT-Walsin-Technologies-datasheet-62066062.pdf?src-supplier=TME; ComponentLink7URL: https://datasheet.octopart.com/0402B104K250CT-Walsin-Technologies-datasheet-136037192.pdf?src-supplier=TECHDesign; ComponentLink7Description: https://datasheet.octopart.com/0402B104K250CT-Walsin-Technologies-datasheet-136037192.pdf?src-supplier=TECHDesign; Supplier Part Number 1: 1292-1175-1-ND
footprint CAP_0402 (Capacitor)
pins: 1, 2

## CAP_100nF_10%_50V_X7R_0805
designator C?, comment 100nF
Ceramic Capacitor, Multilayer, Ceramic, 50V, 10% +Tol, 10% -Tol, X7R, 15% TC, 0.1uF, Surface Mount, 0805; Manufacturer: Yageo; Manufacturer Part Number: CC0805KRX7R9BB104; Multilayer: Yes; Supplier: Farnell; Supplier Part Number: 3019949; RoHS: Yes; Category: Ceramic Capacitors; Stock: 882696; Pricing: 10=0.0478, 100=0.0335, 500=0.0272, 1000=0.0208, 2000=0.0204 (EUR); Mounting Technology: Surface Mount; Pins: 2; Dielectric Material: Ceramic; Package Shape: Rectangular; Case/Package: 0805; Terminal Finish: Nickel; Min Operating Temperature: -55°C; Max Operating Temperature: 125°C; JESD-609 Code: e3; Value: 100nF; Capacitor Type: Ceramic; Tolerance  (fill in as +-): 10%; Package Style: SMTMeter; Packaging: Tape and Reel; Tolerance (fill in as +-): 10%; Rated DC Voltage (URdc): 50V; Temperature Characteristics Code: X7R; Termination: Wraparound; Length: 2mm; Width: 1.25mm; Height: 0.85mm; Reach SVHC Compliant: Yes; RoHS Compliant: Yes; ComponentLink1URL: https://datasheet.ciiva.com:443/pdfs/VipMasterIC/IC/YAGO/YAGO-S-A0003557223/YAGO-S-A0003557223-1.pdf?src-supplier=IHS+Markit; ComponentLink1Description: https://datasheet.ciiva.com:443/pdfs/VipMasterIC/IC/YAGO/YAGO-S-A0003557223/YAGO-S-A0003557223-1.pdf?src-supplier=IHS+Markit; ComponentLink2URL: https://datasheet.ciiva.com/11786/0900766b80d84f1d-11786009.pdf?src-supplier=Rs; ComponentLink2Description: https://datasheet.ciiva.com/11786/0900766b80d84f1d-11786009.pdf?src-supplier=Rs; ComponentLink3URL: https://datasheet.ciiva.com/11464/upy-gphc-x7r-6-3v-to-50v-8-11464757.pdf?src-supplier=Avnet; ComponentLink3Description: https://datasheet.ciiva.com/11464/upy-gphc-x7r-6-3v-to-50v-8-11464757.pdf?src-supplier=Avnet; ComponentLink4URL: https://datasheet.ciiva.com/155/mlccorderingcode-155930.pdf?src-supplier=Digikey; ComponentLink4Description: https://datasheet.ciiva.com/155/mlccorderingcode-155930.pdf?src-supplier=Digikey; ComponentLink5URL: https://datasheet.ciiva.com/28450/1489800-28450805.pdf?src-supplier=Element14; ComponentLink5Description: https://datasheet.ciiva.com/28450/1489800-28450805.pdf?src-supplier=Element14; ComponentLink6URL: https://datasheet.ciiva.com/46393/1734573-46393307.pdf?src-supplier=Element14; ComponentLink6Description: https://datasheet.ciiva.com/46393/1734573-46393307.pdf?src-supplier=Element14; ComponentLink7URL: https://datasheet.ciiva.com/155/mlccorderingcode-155929.pdf?src-supplier=Digikey; ComponentLink7Description: https://datasheet.ciiva.com/155/mlccorderingcode-155929.pdf?src-supplier=Digikey; ComponentLink8URL: https://datasheet.ciiva.com/155/mlccorderingcode-155931.pdf?src-supplier=Digikey; ComponentLink8Description: https://datasheet.ciiva.com/155/mlccorderingcode-155931.pdf?src-supplier=Digikey; ComponentLink9URL: https://datasheet.ciiva.com/29242/445210-da-01-en-kerko-chip-0805-x7r-0-1uf-10proz-50vg-29242074.pdf?src-supplier=Conrad; ComponentLink9Description: https://datasheet.ciiva.com/29242/445210-da-01-en-kerko-chip-0805-x7r-0-1uf-10proz-50vg-29242074.pdf?src-supplier=Conrad
footprint CAP_0805
pins: 1, 1, 1, 1, 2, 2, 2, 2

## CAP_100nF_16V_10%_X7R_0603
designator C?, comment 100nF
Ceramic Capacitor, Multilayer, Ceramic, 16V, 10% +Tol, 10% -Tol, X7R, 15% TC, 0.1uF, Surface Mount, 0603; Manufacturer: KEMET; Manufacturer Part Number: C0603C104K4RACTU; Multilayer: Yes; Supplier: Digi-Key; Supplier Part Number: 399-C0603C104K4RAC7867DKR-ND; RoHS: Yes; Category: Ceramic Capacitors; Stock: 507245; Pricing: 1=0.1, 10=0.069, 50=0.0394, 100=0.0305, 500=0.02298, 1000=0.01805 (USD); Mounting Technology: Surface Mount; Pins: 2; Dielectric Material: Ceramic; Package Shape: Rectangular; Case/Package: 0603; Terminal Finish: Nickel; Min Operating Temperature: -55°C; Max Operating Temperature: 125°C; JESD-609 Code: e3; Value: 100nF; Capacitor Type: Ceramic; Tolerance  (fill in as +-): 10%; Package Style: SMTMeter; Packaging: Tape and Reel; Tolerance (fill in as +-): 10%; Rated DC Voltage (URdc): 16V; Temperature Characteristics Code: X7R; Termination: Wraparound; Length: 1.6mm; Width: 0.8mm; Height: 0.8mm; Reach SVHC Compliant: Yes; RoHS Compliant: Yes; ComponentLink1URL: https://datasheet.ciiva.com:443/pdfs/VipMasterIC/IC/KEME/KEME-S-A0008991654/KEME-S-A0008991654-1.pdf?src-supplier=IHS+Markit; ComponentLink1Description: https://datasheet.ciiva.com:443/pdfs/VipMasterIC/IC/KEME/KEME-S-A0008991654/KEME-S-A0008991654-1.pdf?src-supplier=IHS+Markit; ComponentLink2URL: https://datasheet.ciiva.com/22749/kem-c1002-x7r-smd-22749657.pdf?src-supplier=Element14; ComponentLink2Description: https://datasheet.ciiva.com/22749/kem-c1002-x7r-smd-22749657.pdf?src-supplier=Element14; ComponentLink3URL: https://datasheet.ciiva.com/14589/70095383-14589014.pdf?src-supplier=Allied+Electronics; ComponentLink3Description: https://datasheet.ciiva.com/14589/70095383-14589014.pdf?src-supplier=Allied+Electronics; ComponentLink4URL: https://datasheet.ciiva.com/5413/kem-c1002-x7r-smd-5413791.pdf?src-supplier=Mouser; ComponentLink4Description: https://datasheet.ciiva.com/5413/kem-c1002-x7r-smd-5413791.pdf?src-supplier=Mouser
footprint CAP_0603
pins: 1, 2

## CAP_100nF_16V_10%_X7R_0805
designator C?, comment 100nF
Ceramic Capacitor, Multilayer, Ceramic, 16V, 10% +Tol, 10% -Tol, X7R, 15% TC, 0.1uF, Surface Mount, 0805; Manufacturer: KEMET; Manufacturer Part Number: C0805C104K4RACTU; Multilayer: Yes; Supplier: Digikey; Supplier Part Number: 399-C0805C104K4RAC7800CT-ND; RoHS: Yes; Category: Ceramic Capacitors; Stock: 89876; Pricing: 1=0.19, 10=0.13, 50=0.0774, 100=0.0609, 500=0.04498, 1000=0.03723 (USD); Mounting Technology: Surface Mount; Pins: 2; Dielectric Material: Ceramic; Package Shape: Rectangular; Case/Package: 0805; Terminal Finish: Nickel; Min Operating Temperature: -55°C; Max Operating Temperature: 125°C; JESD-609 Code: e3; Value: 100nF; Capacitor Type: Ceramic; Tolerance  (fill in as +-): 10%; Packaging: Tape and Reel; Tolerance (fill in as +-): 10%; Rated DC Voltage (URdc): 16V; Temperature Characteristics Code: X7R; Termination: Wraparound; Reach SVHC Compliant: Yes; RoHS Compliant: Yes; ComponentLink1URL: https://datasheet.ciiva.com:443/pdfs/VipMasterIC/IC/KEME/KEME-S-A0006434815/KEME-S-A0006434815-1.pdf?src-supplier=IHS+Markit; ComponentLink1Description: https://datasheet.ciiva.com:443/pdfs/VipMasterIC/IC/KEME/KEME-S-A0006434815/KEME-S-A0006434815-1.pdf?src-supplier=IHS+Markit; ComponentLink2URL: https://datasheet.ciiva.com/46443/1851736-46443711.pdf?src-supplier=Element14; ComponentLink2Description: https://datasheet.ciiva.com/46443/1851736-46443711.pdf?src-supplier=Element14; ComponentLink3URL: https://datasheet.ciiva.com/46443/1851736-46443710.pdf?src-supplier=Element14; ComponentLink3Description: https://datasheet.ciiva.com/46443/1851736-46443710.pdf?src-supplier=Element14
footprint CAP_0805
pins: 1, 2

## CAP_100nF_50V_10%_0805
designator C?, comment 100nF
Ceramic Capacitor, Multilayer, Ceramic, 50V, 10% +Tol, 10% -Tol, X7R, 15% TC, 0.1uF, Surface Mount, 0805; Manufacturer: Yageo; Manufacturer Part Number: CC0805KRX7R9BB104; Multilayer: Yes; Supplier: Rs; Supplier Part Number: 6698842; RoHS: Yes; Category: Ceramic Capacitors; Stock: 52000; Pricing: 1=0.02204, 4=0.02138, 10=0.0205, 25=0.01973, 50=0.01896 (EUR); Mounting Technology: Surface Mount; Pins: 2; Dielectric Material: Ceramic; Package Shape: Rectangular; Case/Package: 0805; Terminal Finish: Nickel; Min Operating Temperature: -55°C; Max Operating Temperature: 125°C; JESD-609 Code: e3; Value: 100nF; Capacitor Type: Ceramic; Tolerance  (fill in as +-): 10%; Package Style: SMTMeter; Packaging: Tape and Reel; Tolerance (fill in as +-): 10%; Rated DC Voltage (URdc): 50V; Temperature Characteristics Code: X7R; Termination: Wraparound; Length: 2mm; Width: 1.25mm; Height: 0.85mm; Reach SVHC Compliant: Yes; RoHS Compliant: Yes; ComponentLink1URL: https://datasheet.ciiva.com:443/pdfs/VipMasterIC/IC/YAGO/YAGO-S-A0003557223/YAGO-S-A0003557223-1.pdf?src-supplier=IHS+Markit; ComponentLink1Description: https://datasheet.ciiva.com:443/pdfs/VipMasterIC/IC/YAGO/YAGO-S-A0003557223/YAGO-S-A0003557223-1.pdf?src-supplier=IHS+Markit; ComponentLink2URL: https://datasheet.ciiva.com/11786/0900766b80d84f1d-11786009.pdf?src-supplier=Rs; ComponentLink2Description: https://datasheet.ciiva.com/11786/0900766b80d84f1d-11786009.pdf?src-supplier=Rs; ComponentLink3URL: https://datasheet.ciiva.com/11464/upy-gphc-x7r-6-3v-to-50v-8-11464757.pdf?src-supplier=Avnet; ComponentLink3Description: https://datasheet.ciiva.com/11464/upy-gphc-x7r-6-3v-to-50v-8-11464757.pdf?src-supplier=Avnet; ComponentLink4URL: https://datasheet.ciiva.com/155/mlccorderingcode-155930.pdf?src-supplier=Digikey; ComponentLink4Description: https://datasheet.ciiva.com/155/mlccorderingcode-155930.pdf?src-supplier=Digikey; ComponentLink5URL: https://datasheet.ciiva.com/28450/1489800-28450805.pdf?src-supplier=Element14; ComponentLink5Description: https://datasheet.ciiva.com/28450/1489800-28450805.pdf?src-supplier=Element14; ComponentLink6URL: https://datasheet.ciiva.com/46393/1734573-46393307.pdf?src-supplier=Element14; ComponentLink6Description: https://datasheet.ciiva.com/46393/1734573-46393307.pdf?src-supplier=Element14; ComponentLink7URL: https://datasheet.ciiva.com/155/mlccorderingcode-155929.pdf?src-supplier=Digikey; ComponentLink7Description: https://datasheet.ciiva.com/155/mlccorderingcode-155929.pdf?src-supplier=Digikey; ComponentLink8URL: https://datasheet.ciiva.com/155/mlccorderingcode-155931.pdf?src-supplier=Digikey; ComponentLink8Description: https://datasheet.ciiva.com/155/mlccorderingcode-155931.pdf?src-supplier=Digikey; ComponentLink9URL: https://datasheet.ciiva.com/29242/445210-da-01-en-kerko-chip-0805-x7r-0-1uf-10proz-50vg-29242074.pdf?src-supplier=Conrad; ComponentLink9Description: https://datasheet.ciiva.com/29242/445210-da-01-en-kerko-chip-0805-x7r-0-1uf-10proz-50vg-29242074.pdf?src-supplier=Conrad
footprint CAP_0805
pins: 1, 2

## CAP_100nF_50V_20%_0603
designator C?, comment 100nF 50V
Ceramic Capacitor, Multilayer, Ceramic, 50V, 80% +Tol, 20% -Tol, Y5V, -82/+22% TC, 0.1uF, Surface Mount, 0603; Manufacturer: Yageo; Manufacturer Part Number: CC0603ZRY5V9BB104; Multilayer: Yes; Supplier: Future Electronics; Supplier Part Number: 6277917; RoHS: Yes; Category: Ceramic Capacitors; Stock: 772000; Pricing: 4000=0.004, 16000=0.0037, 80000=0.0035, 160000=0.0034, 500000=0.0032 (USD); Mounting Technology: Surface Mount; Pins: 2; Dielectric Material: Ceramic; Package Shape: Rectangular; Case/Package: 0603; Terminal Finish: Nickel; Min Operating Temperature: -30°C; Max Operating Temperature: 85°C; JESD-609 Code: e3; Value: 100nF; Capacitor Type: Ceramic; Tolerance  (fill in as +-): 20%; Package Style: SMTMeter; Packaging: Tape and Reel; Tolerance (fill in as +-): 80%; Rated DC Voltage (URdc): 50V; Temperature Characteristics Code: Y5V; Termination: Wraparound; Length: 1.6mm; Width: 0.8mm; Height: 0.8mm; Reach SVHC Compliant: Yes; RoHS Compliant: Yes; ComponentLink1URL: https://datasheet.ciiva.com:443/pdfs/VipMasterIC/IC/YAGO/YAGO-S-A0004841839/YAGO-S-A0004841839-1.pdf?src-supplier=IHS+Markit; ComponentLink1Description: https://datasheet.ciiva.com:443/pdfs/VipMasterIC/IC/YAGO/YAGO-S-A0004841839/YAGO-S-A0004841839-1.pdf?src-supplier=IHS+Markit; ComponentLink2URL: https://datasheet.ciiva.com/11786/0900766b8079c870-11786029.pdf?src-supplier=Rs; ComponentLink2Description: https://datasheet.ciiva.com/11786/0900766b8079c870-11786029.pdf?src-supplier=Rs; ComponentLink3URL: https://datasheet.ciiva.com/144/mlccorderingcode-144027.pdf?src-supplier=Digikey; ComponentLink3Description: https://datasheet.ciiva.com/144/mlccorderingcode-144027.pdf?src-supplier=Digikey; ComponentLink4URL: https://datasheet.ciiva.com/28450/1132289-28450702.pdf?src-supplier=Element14; ComponentLink4Description: https://datasheet.ciiva.com/28450/1132289-28450702.pdf?src-supplier=Element14; ComponentLink5URL: https://datasheet.ciiva.com/5427/upy-gphc-y5v-6-3v-to-50v-5-5427420.pdf?src-supplier=Mouser; ComponentLink5Description: https://datasheet.ciiva.com/5427/upy-gphc-y5v-6-3v-to-50v-5-5427420.pdf?src-supplier=Mouser; ComponentLink6URL: https://datasheet.ciiva.com/144/mlccorderingcode-144025.pdf?src-supplier=Digikey; ComponentLink6Description: https://datasheet.ciiva.com/144/mlccorderingcode-144025.pdf?src-supplier=Digikey; ComponentLink7URL: https://datasheet.ciiva.com/144/mlccorderingcode-144026.pdf?src-supplier=Digikey; ComponentLink7Description: https://datasheet.ciiva.com/144/mlccorderingcode-144026.pdf?src-supplier=Digikey; ComponentLink8URL: https://datasheet.ciiva.com/26829/getdatasheetpartid-403611-26829467.pdf?src-supplier=Verical; ComponentLink8Description: https://datasheet.ciiva.com/26829/getdatasheetpartid-403611-26829467.pdf?src-supplier=Verical
footprint CAP_0603
pins: 1, 2

## CAP_100nF_100V_10%_X7R_0603
designator C?, comment 100nF
Multilayer Ceramic Capacitor, 0.1 uF, 100 V, ± 10%, X7R, 0603 [1608 Metric]; Manufacturer: Samsung; Manufacturer Part Number: CL10B104KC8NNNC; Material: 4241ConductorMaterial; Voltage Rating: 100V; Supplier 1: Digi-Key; RoHS: Yes; Category: Ceramic Capacitors; Stock 1: 1608474; Pricing 1: 1=0.1, 10=0.063, 50=0.0342, 100=0.028, 500=0.01998, 1000=0.01569 (USD); Mount: Surface Mount; Case/Package: 0603; Case Code (Metric): 1608; Case Code (Imperial): 0603; Min Operating Temperature: -55°C; Max Operating Temperature: 125°C; Capacitance: 100nF; Packaging: Cut Tape; Tolerance: 10%; Series: CL; Voltage Rating (DC): 100V; Length: 0.063inch; Width: 0.031inch; Height: 900um; Thickness: 0.035inch; RoHS Compliant: Yes; ComponentLink1URL: http://www.farnell.com/datasheets/2710684.pdf?src-supplier=Farnell; ComponentLink1Description: http://www.farnell.com/datasheets/2710684.pdf?src-supplier=Farnell; ComponentLink2URL: https://datasheet.octopart.com/CL10B104KC8NNNC-Samsung-Electro-Mechanics-datasheet-116890972.pdf?src-supplier=Future+Electronics; ComponentLink2Description: https://datasheet.octopart.com/CL10B104KC8NNNC-Samsung-Electro-Mechanics-datasheet-116890972.pdf?src-supplier=Future+Electronics; ComponentLink3URL: http://www.samsungsem.com/kr/support/product-search/mlcc/CL10B104KC8NNNC.jsp?src-supplier=Digi-Key; ComponentLink3Description: http://www.samsungsem.com/kr/support/product-search/mlcc/CL10B104KC8NNNC.jsp?src-supplier=Digi-Key; ComponentLink4URL: http://www.farnell.com/datasheets/2710684.pdf?src-supplier=Element14; ComponentLink4Description: http://www.farnell.com/datasheets/2710684.pdf?src-supplier=Element14; ComponentLink5URL: http://www.farnell.com/datasheets/2710684.pdf?src-supplier=Newark; ComponentLink5Description: http://www.farnell.com/datasheets/2710684.pdf?src-supplier=Newark; ComponentLink6URL: https://www.verical.com/server-webapp/html/getDatasheet?partID=780284&src-supplier=Verical; ComponentLink6Description: https://www.verical.com/server-webapp/html/getDatasheet?partID=780284&src-supplier=Verical; ComponentLink7URL: https://datasheet.octopart.com/CL10B104KC8NNNC-Samsung-datasheet-8326407.pdf?src-supplier=TME; ComponentLink7Description: https://datasheet.octopart.com/CL10B104KC8NNNC-Samsung-datasheet-8326407.pdf?src-supplier=TME; Supplier Part Number 1: 1276-6807-1-ND
footprint CAP_0603 (Chip Capacitor 0603, 2-Leads, Body 1.68x0.88mm, IPC Medium Density)
pins: 1, 2

## CAP_100nF_100V_10%_X7R_1206
designator C?, comment 100nF 100V
1206 100 nF 100V ±10 % Tolerance X7R Surface Mount Multilayer Ceramic Capacitor; Manufacturer: Kyocera AVX; Manufacturer Part Number: 12061C104KAT2A\3K; Supplier: Digikey; Supplier Part Number: 478-KGM31DR72A104KUCT-ND; RoHS: No; Category: Ceramic Capacitors; Stock: 56718; Pricing: 1=0.17, 10=0.11, 50=0.0696, 100=0.0556, 500=0.04016, 1000=0.03554 (USD)
footprint CAP_1206
pins: 1, 2

## CAP_100pF_1kV_10%_TH
designator C?, comment 100pF 1kV
Film Capacitor, Polypropylene, 1000V, 10% +Tol, 10% -Tol, 0.0001uF, Through Hole Mount; Manufacturer: WIMA; Manufacturer Part Number: FKP2O101001D00KSSD; Rated AC Voltage (URac): 250V; Supplier: Digikey; Supplier Part Number: 1928-1291-ND; RoHS: Yes; Category: Film Capacitors; Stock: 15977; Pricing: 1=0.33, 10=0.22, 50=0.1754, 100=0.1449, 500=0.1132, 1000=0.09965 (USD); Mounting Technology: Through Hole; Pins: 2; Dielectric Material: Polypropylene; Package Shape: Rectangular; Case/Package: 2818; Terminal Finish: Tin; Min Operating Temperature: -55°C; Max Operating Temperature: 100°C; JESD-609 Code: e3; Value: 100pF; Capacitor Type: FILM; Tolerance  (fill in as +-): 10%; Package Style: RadialMeter; Packaging: Bulk; Tolerance (fill in as +-): 10%; Rated DC Voltage (URdc): 1kV; Termination: Wire; Length: 7.2mm; Width: 4.5mm; Height: 6mm; Terminal Pitch: 5mm; Reach SVHC Compliant: Yes; RoHS Compliant: Yes; ComponentLink1URL: https://datasheet.ciiva.com:443/pdfs/VipMasterIC/IC/WIMA/WIMA-S-A0000135544/WIMA-S-A0000135544-1.pdf?src-supplier=IHS+Markit; ComponentLink1Description: https://datasheet.ciiva.com:443/pdfs/VipMasterIC/IC/WIMA/WIMA-S-A0000135544/WIMA-S-A0000135544-1.pdf?src-supplier=IHS+Markit; ComponentLink2URL: http://www.mouser.com/ds/2/440/WIMA_FKP_2-9257.pdf?src-supplier=Mouser; ComponentLink2Description: http://www.mouser.com/ds/2/440/WIMA_FKP_2-9257.pdf?src-supplier=Mouser
footprint CAP_FILM_PCM_5mm
pins: 1, 2